# EAGLE library part LP-48VA (library trafo-signal)
TRANSFORMER
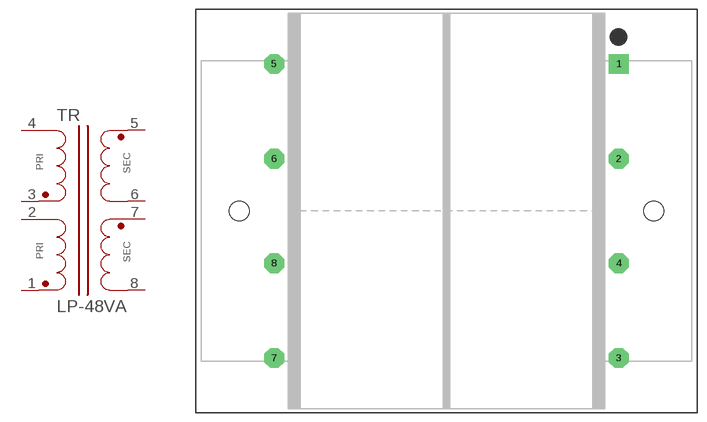
[diagram p4: symbol with the pads of LP-48VA; footprint LP-48VA]

Designator prefix TR

## LP-48VA  [LP-48VA]
1  1  pas
2  2  pas
3  3  pas
4  4  pas
5  5  pas
6  6  pas
7  7  pas
8  8  pas

## Footprint LP-48VA (pad centres in mm)
PC Series - 48VA
drill 1.422 pad 3.175 square: 1 27.686,23.622
drill 1.422 pad 3.175 octagon: 2 27.686,8.382; 3 27.686,-23.622; 4 27.686,-8.382; 5 -27.686,23.622; 6 -27.686,8.382; 7 -27.686,-23.622; 8 -27.686,-8.382
hole 3.175 at -33.274,0
hole 3.175 at 33.274,0